# Altium footprint library CornellBajaLibrary.PcbLib: 134 footprints (part 3 of 9)
Each footprint in its own frame and in the unit in brackets; x right, y up, seen from the top. Pads: shape width x height; smd on the part's side, far side on the other; paste and mask are expansions set on the pad; w line width, h text height; cw(c..) or ccw(c..) is an arc to the next point about the centre after c.
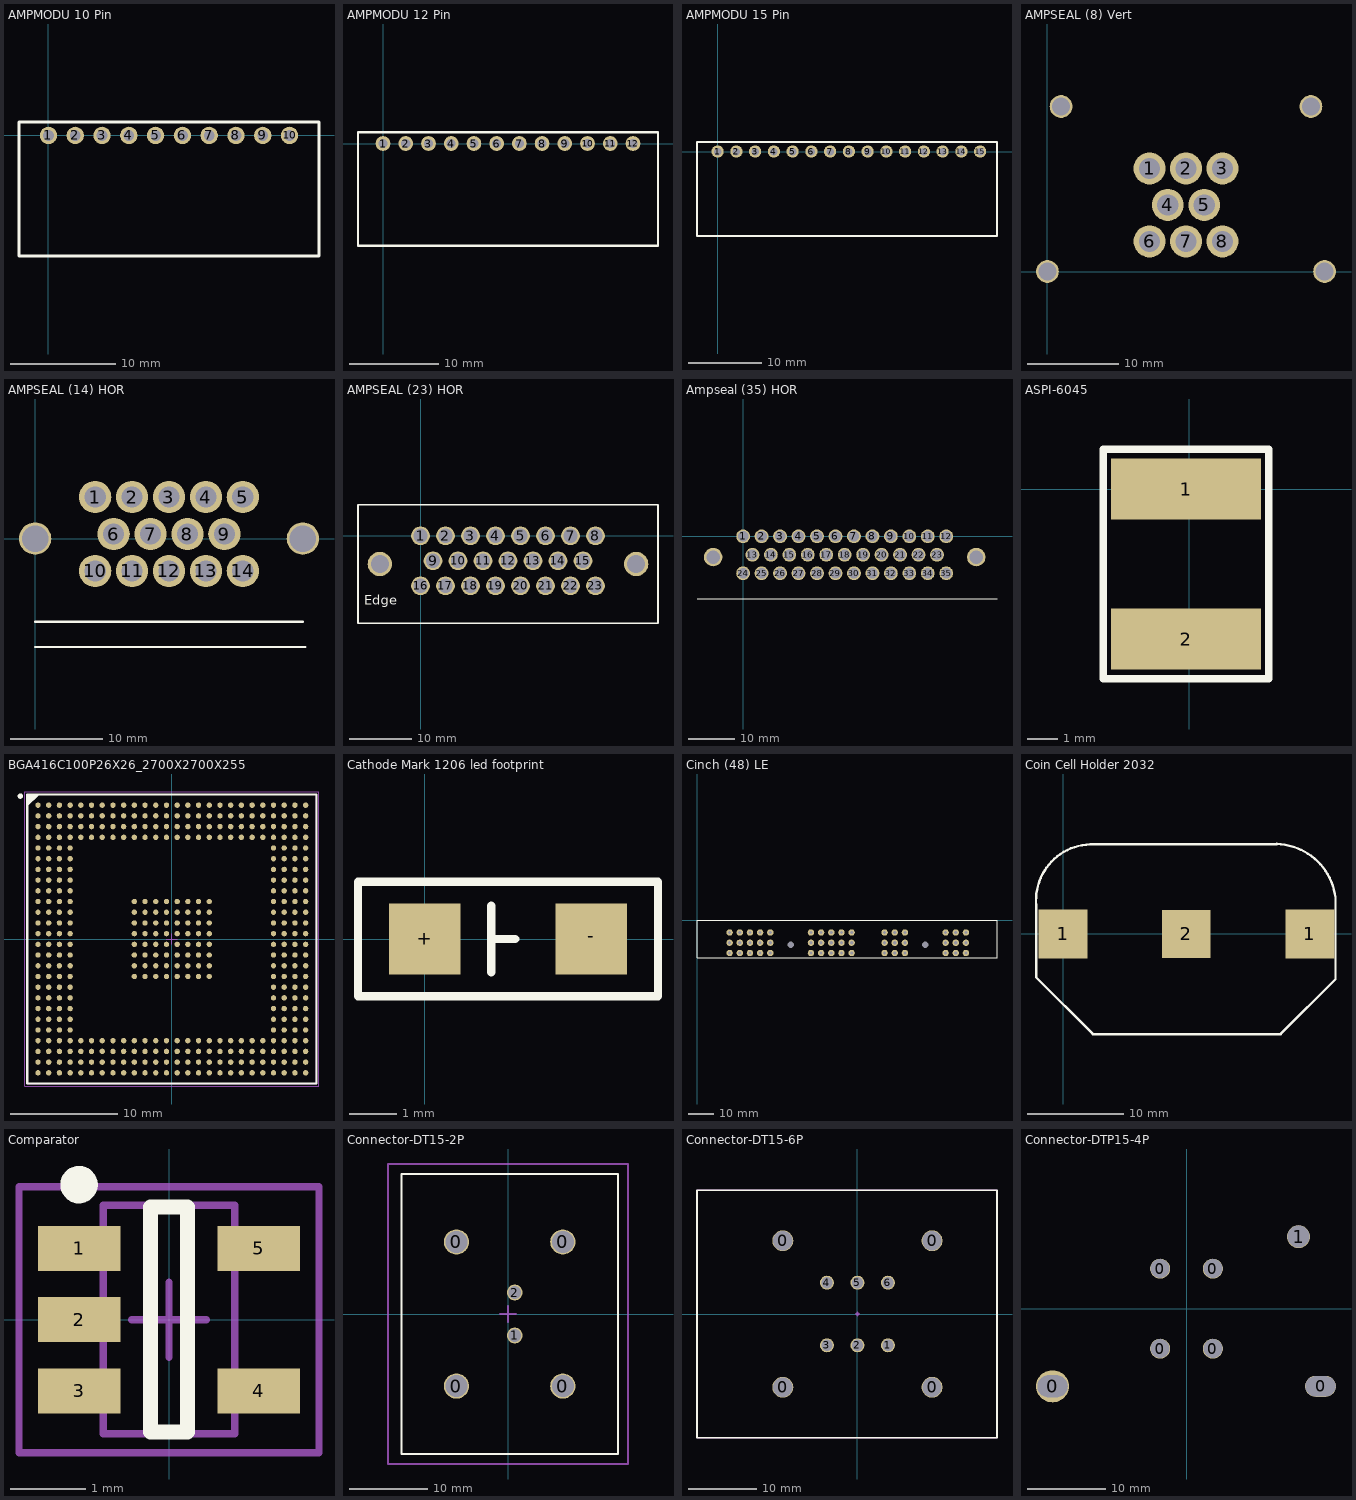
[diagram p2: the footprints below, top view; thin cyan lines are the x and y axes]

## AMPMODU 10 Pin [mil]
pads (10):
  round 65 hole 40: 1(0,0) 2(100,0) 3(200,0) 4(300,0) 5(400,0) 6(500,0) 7(600,0) 8(700,0) 9(800,0) 10(900,0)
Top Overlay:
  lines w9.84: -110,-450 -110,50 ; 1010,-450 1010,50
  lines w10: -110,-450 1010,-450 ; -110,50 1010,50

## AMPMODU 12 Pin [mil]
pads (12):
  round 65 hole 40: 1(0,0) 2(100,0) 3(200,0) 4(300,0) 5(400,0) 6(500,0) 7(600,0) 8(700,0) 9(800,0) 10(900,0) 11(1000,0) 12(1100,0)
Top Overlay:
  lines w9.84: -110,-450 -110,50 ; 1210,-450 1210,50
  lines w10: -110,-450 1210,-450 ; -110,50 1210,50

## AMPMODU 15 Pin [mil]
pads (15):
  round 65 hole 40: 1(0,0) 2(100,0) 3(200,0) 4(300,0) 5(400,0) 6(500,0) 7(600,0) 8(700,0) 9(800,0) 10(900,0) 11(1000,0) 12(1100,0) 13(1200,0) 14(1300,0) 15(1400,0)
Top Overlay:
  lines w9.84: -110,-450 -110,50 ; 1490,-450 1490,50
  lines w10: -110,-450 1490,-450 ; -110,50 1490,50

## AMPSEAL (8) Vert [mm]
pads (12):
  round 3.5 hole 2.32: 1(11.2,11.3) 2(15.2,11.3) 3(19.2,11.3) 4(13.2,7.3) 5(17.2,7.3) 6(11.2,3.3) 7(15.2,3.3) 8(19.2,3.3)
  round 2.5 hole 2: ""(0,0) ""(1.5,18.1) ""(28.9,18.1) ""(30.4,0)
3D body: height 34, standoff -4.05, extent -5.2,-8.8 35.6,23.3

## AMPSEAL (14) HOR [mm]
pads (16):
  round 3.5 hole 2.3: 1(6.5,4.5) 2(10.5,4.5) 3(14.5,4.5) 4(18.5,4.5) 5(22.5,4.5) 6(8.5,0.5) 7(12.5,0.5) 8(16.5,0.5) 9(20.5,0.5) 10(6.5,-3.5) 11(10.5,-3.5) 12(14.5,-3.5) 13(18.5,-3.5) 14(22.5,-3.5)
  round 3.5 hole 2.85: ""(0,0) ""(29,0)
Top Overlay:
  lines w0.254: 0,-11.75 29.25,-11.75 ; 0,-9 29,-9

## AMPSEAL (23) HOR [mm]
pads (25):
  round 3 hole 2.286: 1(0,0) 2(4,0) 3(8,0) 4(12,0) 5(16,0) 6(20,0) 7(24,0) 8(28,0) 9(2,-4) 10(6,-4) 11(10,-4) 12(14,-4) 13(18,-4) 14(22,-4) 15(26,-4) 16(0,-8) 17(4,-8) 18(8,-8) 19(12,-8) 20(16,-8) 21(20,-8) 22(24,-8) 23(28,-8)
  round 3.9 hole 2.85: ""(-6.5,-4.5) ""(34.5,-4.5)
Top Overlay:
  lines w0.254: -10,-14 -10,5 38,5 38,-14 -10,-14
  text "Edge" at -9,-11 h1.52

## Ampseal (35) HOR [mm]
pads (37):
  round 3 hole 2.3: 1(0,0) 2(4,0) 3(8,0) 4(12,0) 5(16,0) 6(20,0) 7(24,0) 8(28,0) 9(32,0) 10(36,0) 11(40,0) 12(44,0) 13(2,-4) 14(6,-4) 15(10,-4) 16(14,-4) 17(18,-4) 18(22,-4) 19(26,-4) 20(30,-4) 21(34,-4) 22(38,-4) 23(42,-4) 24(0,-8) 25(4,-8) 26(8,-8) 27(12,-8) 28(16,-8) 29(20,-8) 30(24,-8) 31(28,-8) 32(32,-8) 33(36,-8) 34(40,-8) 35(44,-8)
  round 4 hole 2.9: ""(-6.5,-4.5) ""(50.5,-4.5)
Top Overlay:
  lines w0.254: -10,-13.5 50.5,-13.5 55,-13.5

## ASPI-6045 [mm]
pads (2):
  rect 4.9x2 smd: 1(-0.1,0) 2(-0.1,-4.9)
Top Overlay:
  lines w0.25: -2.8,-6.2 2.6,-6.2 2.6,1.3 -2.8,1.3 -2.8,-6.2
3D body: height 4.5, standoff 0, extent -2.5,-5.5 2.3,0.5

## BGA416C100P26X26_2700X2700X255 [mm] "BGA, 416-Leads, Body 27.00x27.00mmx2.55mm, Pitch 1.00mm"
height 2.55
pads (416):
  round 0.5 smd: A1(-12.5,12.5) A2(-11.5,12.5) A3(-10.5,12.5) A4(-9.5,12.5) A5(-8.5,12.5) A6(-7.5,12.5) A7(-6.5,12.5) A8(-5.5,12.5) A9(-4.5,12.5) A10(-3.5,12.5) A11(-2.5,12.5) A12(-1.5,12.5) A13(-0.5,12.5) A14(0.5,12.5) A15(1.5,12.5) A16(2.5,12.5) A17(3.5,12.5) A18(4.5,12.5) A19(5.5,12.5) A20(6.5,12.5) A21(7.5,12.5) A22(8.5,12.5) A23(9.5,12.5) A24(10.5,12.5) A25(11.5,12.5) A26(12.5,12.5) AA1(-12.5,-7.5) AA2(-11.5,-7.5) AA3(-10.5,-7.5) AA4(-9.5,-7.5) AA23(9.5,-7.5) AA24(10.5,-7.5) AA25(11.5,-7.5) AA26(12.5,-7.5) AB1(-12.5,-8.5) AB2(-11.5,-8.5) AB3(-10.5,-8.5) AB4(-9.5,-8.5) AB23(9.5,-8.5) AB24(10.5,-8.5) AB25(11.5,-8.5) AB26(12.5,-8.5) AC1(-12.5,-9.5) AC2(-11.5,-9.5) AC3(-10.5,-9.5) AC4(-9.5,-9.5) AC5(-8.5,-9.5) AC6(-7.5,-9.5) AC7(-6.5,-9.5) AC8(-5.5,-9.5) AC9(-4.5,-9.5) AC10(-3.5,-9.5) AC11(-2.5,-9.5) AC12(-1.5,-9.5) AC13(-0.5,-9.5) AC14(0.5,-9.5) AC15(1.5,-9.5) AC16(2.5,-9.5) AC17(3.5,-9.5) AC18(4.5,-9.5) AC19(5.5,-9.5) AC20(6.5,-9.5) AC21(7.5,-9.5) AC22(8.5,-9.5) AC23(9.5,-9.5) AC24(10.5,-9.5) AC25(11.5,-9.5) AC26(12.5,-9.5) AD1(-12.5,-10.5) AD2(-11.5,-10.5) AD3(-10.5,-10.5) AD4(-9.5,-10.5) AD5(-8.5,-10.5) AD6(-7.5,-10.5) AD7(-6.5,-10.5) AD8(-5.5,-10.5) AD9(-4.5,-10.5) AD10(-3.5,-10.5) AD11(-2.5,-10.5) AD12(-1.5,-10.5) AD13(-0.5,-10.5) AD14(0.5,-10.5) AD15(1.5,-10.5) AD16(2.5,-10.5) AD17(3.5,-10.5) AD18(4.5,-10.5) AD19(5.5,-10.5) AD20(6.5,-10.5) AD21(7.5,-10.5) AD22(8.5,-10.5) AD23(9.5,-10.5) AD24(10.5,-10.5) AD25(11.5,-10.5) AD26(12.5,-10.5) AE1(-12.5,-11.5) AE2(-11.5,-11.5) AE3(-10.5,-11.5) AE4(-9.5,-11.5) AE5(-8.5,-11.5) AE6(-7.5,-11.5) AE7(-6.5,-11.5) AE8(-5.5,-11.5) AE9(-4.5,-11.5) AE10(-3.5,-11.5) AE11(-2.5,-11.5) AE12(-1.5,-11.5) AE13(-0.5,-11.5) AE14(0.5,-11.5) AE15(1.5,-11.5) AE16(2.5,-11.5) AE17(3.5,-11.5) AE18(4.5,-11.5) AE19(5.5,-11.5) AE20(6.5,-11.5) AE21(7.5,-11.5) AE22(8.5,-11.5) AE23(9.5,-11.5) AE24(10.5,-11.5) AE25(11.5,-11.5) AE26(12.5,-11.5) AF1(-12.5,-12.5) AF2(-11.5,-12.5) AF3(-10.5,-12.5) AF4(-9.5,-12.5) AF5(-8.5,-12.5) AF6(-7.5,-12.5) AF7(-6.5,-12.5) AF8(-5.5,-12.5) AF9(-4.5,-12.5) AF10(-3.5,-12.5) AF11(-2.5,-12.5) AF12(-1.5,-12.5) AF13(-0.5,-12.5) AF14(0.5,-12.5) AF15(1.5,-12.5) AF16(2.5,-12.5) AF17(3.5,-12.5) AF18(4.5,-12.5) AF19(5.5,-12.5) AF20(6.5,-12.5) AF21(7.5,-12.5) AF22(8.5,-12.5) AF23(9.5,-12.5) AF24(10.5,-12.5) AF25(11.5,-12.5) AF26(12.5,-12.5) B1(-12.5,11.5) B2(-11.5,11.5) B3(-10.5,11.5) B4(-9.5,11.5) B5(-8.5,11.5) B6(-7.5,11.5) B7(-6.5,11.5) B8(-5.5,11.5) B9(-4.5,11.5) B10(-3.5,11.5) B11(-2.5,11.5) B12(-1.5,11.5) B13(-0.5,11.5) B14(0.5,11.5) B15(1.5,11.5) B16(2.5,11.5) B17(3.5,11.5) B18(4.5,11.5) B19(5.5,11.5) B20(6.5,11.5) B21(7.5,11.5) B22(8.5,11.5) B23(9.5,11.5) B24(10.5,11.5) B25(11.5,11.5) B26(12.5,11.5) C1(-12.5,10.5) C2(-11.5,10.5) C3(-10.5,10.5) C4(-9.5,10.5) C5(-8.5,10.5) C6(-7.5,10.5) C7(-6.5,10.5) C8(-5.5,10.5) C9(-4.5,10.5) C10(-3.5,10.5) C11(-2.5,10.5) C12(-1.5,10.5) C13(-0.5,10.5) C14(0.5,10.5) C15(1.5,10.5) C16(2.5,10.5) C17(3.5,10.5) C18(4.5,10.5) C19(5.5,10.5) C20(6.5,10.5) C21(7.5,10.5) C22(8.5,10.5) C23(9.5,10.5) C24(10.5,10.5) C25(11.5,10.5) C26(12.5,10.5) D1(-12.5,9.5) D2(-11.5,9.5) D3(-10.5,9.5) D4(-9.5,9.5) D5(-8.5,9.5) D6(-7.5,9.5) D7(-6.5,9.5) D8(-5.5,9.5) D9(-4.5,9.5) D10(-3.5,9.5) D11(-2.5,9.5) D12(-1.5,9.5) D13(-0.5,9.5) D14(0.5,9.5) D15(1.5,9.5) D16(2.5,9.5) D17(3.5,9.5) D18(4.5,9.5) D19(5.5,9.5) D20(6.5,9.5) D21(7.5,9.5) D22(8.5,9.5) D23(9.5,9.5) D24(10.5,9.5) D25(11.5,9.5) D26(12.5,9.5) E1(-12.5,8.5) E2(-11.5,8.5) E3(-10.5,8.5) E4(-9.5,8.5) E23(9.5,8.5) E24(10.5,8.5) E25(11.5,8.5) E26(12.5,8.5) F1(-12.5,7.5) F2(-11.5,7.5) F3(-10.5,7.5) F4(-9.5,7.5) F23(9.5,7.5) F24(10.5,7.5) F25(11.5,7.5) F26(12.5,7.5) G1(-12.5,6.5) G2(-11.5,6.5) G3(-10.5,6.5) G4(-9.5,6.5) G23(9.5,6.5) G24(10.5,6.5) G25(11.5,6.5) G26(12.5,6.5) H1(-12.5,5.5) H2(-11.5,5.5) H3(-10.5,5.5) H4(-9.5,5.5) H23(9.5,5.5) H24(10.5,5.5) H25(11.5,5.5) H26(12.5,5.5) J1(-12.5,4.5) J2(-11.5,4.5) J3(-10.5,4.5) J4(-9.5,4.5) J23(9.5,4.5) J24(10.5,4.5) J25(11.5,4.5) J26(12.5,4.5) K1(-12.5,3.5) K2(-11.5,3.5) K3(-10.5,3.5) K4(-9.5,3.5) K10(-3.5,3.5) K11(-2.5,3.5) K12(-1.5,3.5) K13(-0.5,3.5) K14(0.5,3.5) K15(1.5,3.5) K16(2.5,3.5) K17(3.5,3.5) K23(9.5,3.5) K24(10.5,3.5) K25(11.5,3.5) K26(12.5,3.5) L1(-12.5,2.5) L2(-11.5,2.5) L3(-10.5,2.5) L4(-9.5,2.5) L10(-3.5,2.5) L11(-2.5,2.5) L12(-1.5,2.5) L13(-0.5,2.5) L14(0.5,2.5) L15(1.5,2.5) L16(2.5,2.5) L17(3.5,2.5) L23(9.5,2.5) L24(10.5,2.5) L25(11.5,2.5) L26(12.5,2.5) M1(-12.5,1.5) M2(-11.5,1.5) M3(-10.5,1.5) M4(-9.5,1.5) M10(-3.5,1.5) M11(-2.5,1.5) M12(-1.5,1.5) M13(-0.5,1.5) M14(0.5,1.5) M15(1.5,1.5) M16(2.5,1.5) M17(3.5,1.5) M23(9.5,1.5) M24(10.5,1.5) M25(11.5,1.5) M26(12.5,1.5) N1(-12.5,0.5) N2(-11.5,0.5) N3(-10.5,0.5) N4(-9.5,0.5) N10(-3.5,0.5) N11(-2.5,0.5) N12(-1.5,0.5) N13(-0.5,0.5) N14(0.5,0.5) N15(1.5,0.5) N16(2.5,0.5) N17(3.5,0.5) N23(9.5,0.5) N24(10.5,0.5) N25(11.5,0.5) N26(12.5,0.5) P1(-12.5,-0.5) P2(-11.5,-0.5) P3(-10.5,-0.5) P4(-9.5,-0.5) P10(-3.5,-0.5) P11(-2.5,-0.5) P12(-1.5,-0.5) P13(-0.5,-0.5) P14(0.5,-0.5) P15(1.5,-0.5) P16(2.5,-0.5) P17(3.5,-0.5) P23(9.5,-0.5) P24(10.5,-0.5) P25(11.5,-0.5) P26(12.5,-0.5) R1(-12.5,-1.5) R2(-11.5,-1.5) R3(-10.5,-1.5) R4(-9.5,-1.5) R10(-3.5,-1.5) R11(-2.5,-1.5) R12(-1.5,-1.5) R13(-0.5,-1.5) R14(0.5,-1.5) R15(1.5,-1.5) R16(2.5,-1.5) R17(3.5,-1.5) R23(9.5,-1.5) R24(10.5,-1.5) R25(11.5,-1.5) R26(12.5,-1.5) T1(-12.5,-2.5) T2(-11.5,-2.5) T3(-10.5,-2.5) T4(-9.5,-2.5) T10(-3.5,-2.5) T11(-2.5,-2.5) T12(-1.5,-2.5) T13(-0.5,-2.5) T14(0.5,-2.5) T15(1.5,-2.5) T16(2.5,-2.5) T17(3.5,-2.5) T23(9.5,-2.5) T24(10.5,-2.5) T25(11.5,-2.5) T26(12.5,-2.5) U1(-12.5,-3.5) U2(-11.5,-3.5) U3(-10.5,-3.5) U4(-9.5,-3.5) U10(-3.5,-3.5) U11(-2.5,-3.5) U12(-1.5,-3.5) U13(-0.5,-3.5) U14(0.5,-3.5) U15(1.5,-3.5) U16(2.5,-3.5) U17(3.5,-3.5) U23(9.5,-3.5) U24(10.5,-3.5) U25(11.5,-3.5) U26(12.5,-3.5) V1(-12.5,-4.5) V2(-11.5,-4.5) V3(-10.5,-4.5) V4(-9.5,-4.5) V23(9.5,-4.5) V24(10.5,-4.5) V25(11.5,-4.5) V26(12.5,-4.5) W1(-12.5,-5.5) W2(-11.5,-5.5) W3(-10.5,-5.5) W4(-9.5,-5.5) W23(9.5,-5.5) W24(10.5,-5.5) W25(11.5,-5.5) W26(12.5,-5.5) Y1(-12.5,-6.5) Y2(-11.5,-6.5) Y3(-10.5,-6.5) Y4(-9.5,-6.5) Y23(9.5,-6.5) Y24(10.5,-6.5) Y25(11.5,-6.5) Y26(12.5,-6.5)
Top Overlay:
  circle w0.25: c-14.15,13.35 r0.125
  region: -12.5,13.5 -13.5,12.5 -13.5,13.5
  lines w0.2: -13.5,12.5 -12.5,13.5 ; -13.5,-13.5 -13.5,13.5 13.5,13.5 13.5,-13.5 -13.5,-13.5
Mechanical 13:
  lines w0.1: -13.5,-13.5 -13.5,13.5 13.5,13.5 13.5,-13.5 -13.5,-13.5
Mechanical 15:
  lines w0.05: -13.75,-13.75 -13.75,13.75 13.75,13.75 13.75,-13.75 -13.75,-13.75
  lines w0.1: -0.5,0 0.5,0 ; 0,-0.5 0,0.5
3D body: height 2.55, standoff 0.4, extent -13.5,-13.5 13.5,13.5

## Cathode Mark 1206 led footprint [mm] "OSRAM semiconductor"
height 1.2
pads (2):
  rect 1.5x1.5 smd: +(0,0) -(3.5,0)
Top Overlay:
  lines w0.178: 1.4,-0.7 1.4,0.7 ; 1.4,0 1.9,0 ; -1.4,-1.2 -1.4,1.2 4.9,1.2 4.9,-1.2 -1.4,-1.2
3D body: height 1, standoff 0, extent 0,-0.7 3.6,0.7

## Cinch (48) LE [mm]
pads (50):
  round 2.5 hole 1.27: 1(12.7,-4.83) 2(16.66,-4.83) 3(20.62,-4.83) 4(24.58,-4.83) 5(28.54,-4.83) 6(44.38,-4.83) 7(48.34,-4.83) 8(52.3,-4.83) 9(56.26,-4.83) 10(60.22,-4.83) 11(12.7,-8.82) 12(16.66,-8.82) 13(20.62,-8.82) 14(24.58,-8.82) 15(28.54,-8.82) 16(44.38,-8.82) 17(48.34,-8.82) 18(52.3,-8.82) 19(56.26,-8.82) 20(60.22,-8.82) 21(12.7,-12.81) 22(16.66,-12.81) 23(20.62,-12.81) 24(24.58,-12.81) 25(28.54,-12.81) 26(44.38,-12.81) 27(48.34,-12.81) 28(52.3,-12.81) 29(56.26,-12.81) 30(60.22,-12.81) 31(73.06,-4.83) 32(77.02,-4.83) 33(80.98,-4.83) 34(96.82,-4.83) 35(100.78,-4.83) 36(104.74,-4.83) 37(73.06,-8.82) 38(77.02,-8.82) 39(80.98,-8.82) 40(96.82,-8.82) 41(100.78,-8.82) 42(104.74,-8.82) 43(73.06,-12.81) 44(77.02,-12.81) 45(80.98,-12.81) 46(96.82,-12.81) 47(100.78,-12.81) 48(104.74,-12.81)
  round 0 hole 2.54: ""(36.46,-9.53) ""(88.9,-9.53)
Top Overlay:
  lines w0.254: 0,-14.71 116.84,-14.71 116.84,0 0,0 0,-14.71

## Coin Cell Holder 2032 [mm]
height 4
pads (3):
  rect 5.08x5.08 smd: 1(0,0) 1(25.65,0)
  rect 5x5 smd: 2(12.8,0)
Top Overlay:
  lines w0.254: -2.8,3.001 -2.8,-2.7 -2.8,-4.4 -2.8,-4.5 3.1,-10.4 22.6,-10.4 28.3,-4.7 28.3,3.8 ccw(c22,3) 22.202,9.347 ; -2.786,3.001 cw(c3,3.5) 2.8,9.304 ; 2.8,9.3 22.202,9.3

## Comparator [mm] "TL331KDBVR"
height 1.45
pads (5):
  rect 1.1x0.6 smd: 1(-1.2,0.95) 2(-1.2,0) 3(-1.2,-0.95) 4(1.2,-0.95) 5(1.2,0.95)
Top Overlay:
  circle w0.25: c-1.2,1.8 r0.125
  lines w0.2: -0.25,-1.5 -0.25,1.5 0.25,1.5 0.25,-1.5 -0.25,-1.5
Mechanical 13:
  lines w0.1: -0.875,-1.525 0.875,-1.525 0.875,1.525 -0.875,1.525 -0.875,-1.525
Mechanical 15:
  lines w0.1: -0.5,0 0.5,0 ; 0,-0.5 0,0.5 ; -2,-1.775 2,-1.775 2,1.775 -2,1.775 -2,-1.775
3D body: height 1.45, standoff 0.15, extent -0.875,-1.525 0.875,1.525

## Connector-DT15-2P [mm]
pads (6):
  round 3.2 hole 2.8: 0(-6.55,-9.16) 0(-6.55,9.15) 0(6.96,-9.16) 0(6.96,9.15)
  round 2 hole 1.6: 1(0.85,-2.73) 2(0.85,2.73)
Top Overlay:
  lines w0.254: -13.55,-17.78 13.97,-17.78 13.97,17.78 -13.55,17.78 -13.55,-17.78
Mechanical 15:
  lines w0.254: -1.016,0 1.016,0 ; 0,-1.016 0,1.016 ; -15.24,-19.05 -15.24,19.05 15.24,19.05 15.24,-19.05 -15.24,-19.05
3D body: height 3.1, standoff -30.35, extent -13.462,-17.653 13.97,17.653

## Connector-DT15-6P [mil]
pads (10):
  round 120 hole 110: 0(-428,-420) 0(-428,420) 0(428,-420) 0(428,420)
  round 80 hole 65: 1(175,-179.5) 2(0,-179.5) 3(-175,-179.5) 4(-175,179.5) 5(0,179.5) 6(175,179.5)
Top Overlay:
  lines w10: -920,-710 -920,710 800,710 800,-710 -920,-710
Mechanical 15:
  lines w10: -10,0 10,0 ; 0,-10 0,10 ; -920,-710 -920,710 800,710 800,-710 -920,-710
3D body: height 1195, standoff -122, extent -902.49,-693.99 782.51,694.01

## Connector-DTP15-4P [mil]
pads (7):
  oval 165x160 hole 110 slot 150 at 0 deg: 0(-670,-388)
  round 100 hole 95: 0(-132,-200) 0(-132,200) 0(132,-200) 0(132,200)
  oval 155x105 hole 100 slot 150 at 0 deg: 0(670,-388)
  round 115 hole 110: 1(560,360)
3D body: height 1365, standoff -156.92, extent -1064.99,-718.5 1065,718.51